# EAGLE library part EA_EPA20-A (library ea_v66)
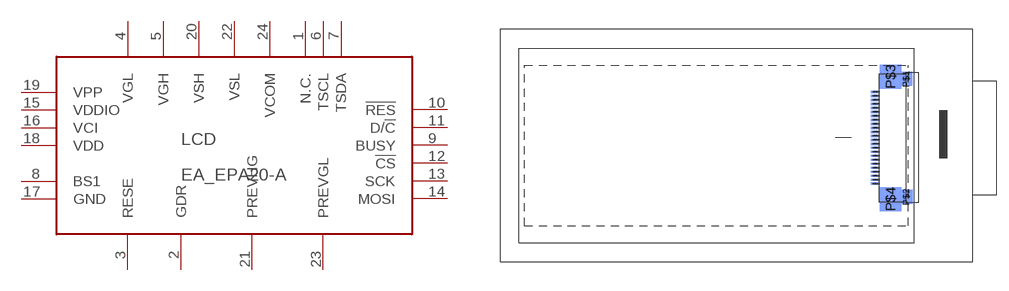
[diagram p7: symbol with the pads of EA_EPA20-A; footprint EA_EPA20-A]

Designator prefix LCD

## EA_EPA20-A  [EA_EPA20-A]
1  N.C.  nc
2  GDR  pas
3  RESE  pas
4  VGL  pas
5  VGH  pas
6  TSCL  out
7  TSDA  out
8  BS1  pwr
9  BUSY  out
10  !RES  in
11  D/!C  in
12  !CS  in
13  SCK  in
14  MOSI  in
15  VDDIO  pwr
16  VCI  pwr
17  GND  pwr
18  VDD  pwr
19  VPP  pwr
20  VSH  pas
21  PREVHG  pas
22  VSL  pas
23  PREVGL  pas
24  VCOM  pas

## Footprint EA_EPA20-A (pad centres in mm)
smd 1.1 x 0.3 bottom: 1 47,9.8; 2 47,10.3; 3 47,10.8; 4 47,11.3; 5 47,11.8; 6 47,12.3; 7 47,12.8; 8 47,13.3; 9 47,13.8; 10 47,14.3; 11 47,14.8; 12 47,15.3; 13 47,15.8; 14 47,16.3; 15 47,16.8; 16 47,17.3; 17 47,17.8; 18 47,18.3; 19 47,18.8; 20 47,19.3; 21 47,19.8; 22 47,20.3; 23 47,20.8; 24 47,21.3
smd 1.524 x 1.778 bottom: P$1 50.894,22.944; P$2 50.906,8.145
smd 2.7 x 3 bottom: P$3 48.91,23.23; P$4 48.91,7.87